# Altium schematic symbol library SamacSys.SchLib: 6 symbols
Pins are listed as number, name and electrical type; pins without a type are passive.

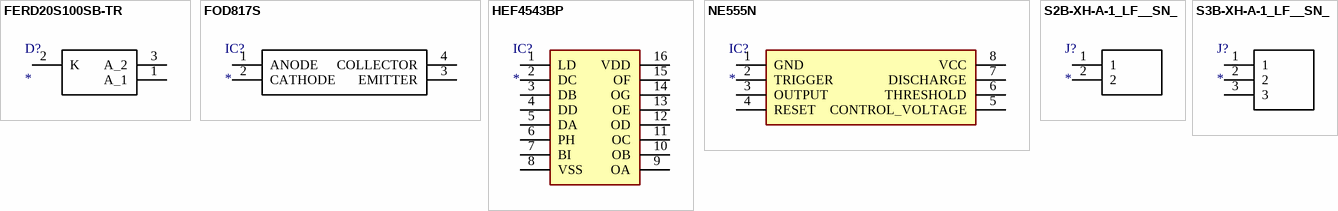
[diagram p0: symbols FERD20S100SB-TR to S3B-XH-A-1_LF__SN_]

## FERD20S100SB-TR
designator D?
Diode; Manufacturer_Name: STMicroelectronics; Manufacturer_Part_Number: FERD20S100SB-TR; Datasheet Link: https://www.mouser.com/datasheet/2/389/dm00272110-1798832.pdf; Height: 2.4mm; Arrow Part Number: FERD20S100SB-TR; Arrow Price/Stock: https://www.arrow.com/en/products/ferd20s100sb-tr/stmicroelectronics; Mouser Part Number: 511-FERD20S100SB-TR; Mouser Price/Stock: https://www.mouser.co.uk/ProductDetail/STMicroelectronics/FERD20S100SB-TR?qs=u4fy%2FsgLU9N8IipzyIKZ6Q%3D%3D
footprint FERD20H100SBTR
pins: 1 A_1, 2 K, 3 A_2

## FOD817S
designator IC?
Integrated Circuit; Manufacturer_Name: ON Semiconductor; Manufacturer_Part_Number: FOD817S; Datasheet Link: https://componentsearchengine.com/Datasheets/1/FOD817S.pdf; Height: 3.85mm; Arrow Part Number: FOD817S; Arrow Price/Stock: https://www.arrow.com/en/products/fod817s/on-semiconductor; Mouser Part Number: 512-FOD817S; Mouser Price/Stock: https://www.mouser.co.uk/ProductDetail/ON-Semiconductor-Fairchild/FOD817S?qs=32VJUWvZ7Xab7eM00K2DFA%3D%3D
footprint SOP254P1016X385-4N
pins: 1 ANODE, 2 CATHODE, 3 EMITTER, 4 COLLECTOR

## HEF4543BP
designator IC?
Integrated Circuit; Manufacturer_Name: Nexperia; Manufacturer_Part_Number: HEF4543BP; Description: BCD-7segment latch/decoder/driver DIP16; Datasheet Link: http://docs-emea.rs-online.com/webdocs/0423/0900766b80423e6d.pdf; Height: 4.7mm; Arrow Part Number: HEF4543BP; Mouser Part Number: N/A; Mouser Price/Stock: https://www.mouser.com/Search/Refine.aspx?Keyword=N%2FA
footprint DIP762W53P254L2160H470Q16N
pins: 1 LD, 2 DC, 3 DB, 4 DD, 5 DA, 6 PH, 7 BI, 8 VSS (power), 9 OA, 10 OB, 11 OC, 12 OD, 13 OE, 14 OG, 15 OF, 16 VDD (power)

## NE555N
designator IC?
Integrated Circuit; Manufacturer_Name: ST; Manufacturer_Part_Number: NE555N; Description: 555 IC timer,NE555N 0.5MHz DIL8 General-purpose single bipolar timers; Datasheet Link: http://uk.rs-online.com/web/p/products/0305478; Height: 5.33mm; Arrow Part Number: NE555N; Mouser Part Number: N/A; Mouser Price/Stock: https://www.mouser.com/Search/Refine.aspx?Keyword=N%2FA
footprint DIP762W56P254L959H533Q8N
pins: 1 GND, 2 TRIGGER, 3 OUTPUT, 4 RESET, 5 CONTROL_VOLTAGE, 6 THRESHOLD, 7 DISCHARGE, 8 VCC

## S2B-XH-A-1_LF__SN_
designator J?
Connector; Manufacturer_Name: JST (JAPAN SOLDERLESS TERMINALS); Manufacturer_Part_Number: S2B-XH-A-1(LF)(SN); Datasheet Link: http://www.jst-mfg.com/product/pdf/eng/eXH.pdf; Height: 6.1mm; Arrow Part Number: S2B-XH-A-1(LF)(SN)
footprint S2B-XH-A
pins: 1, 2

## S3B-XH-A-1_LF__SN_
designator J?
Connector; Manufacturer_Name: JST Sales America; Manufacturer_Part_Number: S3B-XH-A-1(LF)(SN); Datasheet Link: http://www.jst-mfg.com/product/pdf/eng/eXH.pdf?5de523f84a15d; Height: 6.1mm; Arrow Part Number: S3B-XH-A-1(LF)(SN)
footprint S3B-XH-A
pins: 1, 2, 3